# Altium schematic symbol library carrot_lib.SchLib: 285 symbols (part 4 of 4)
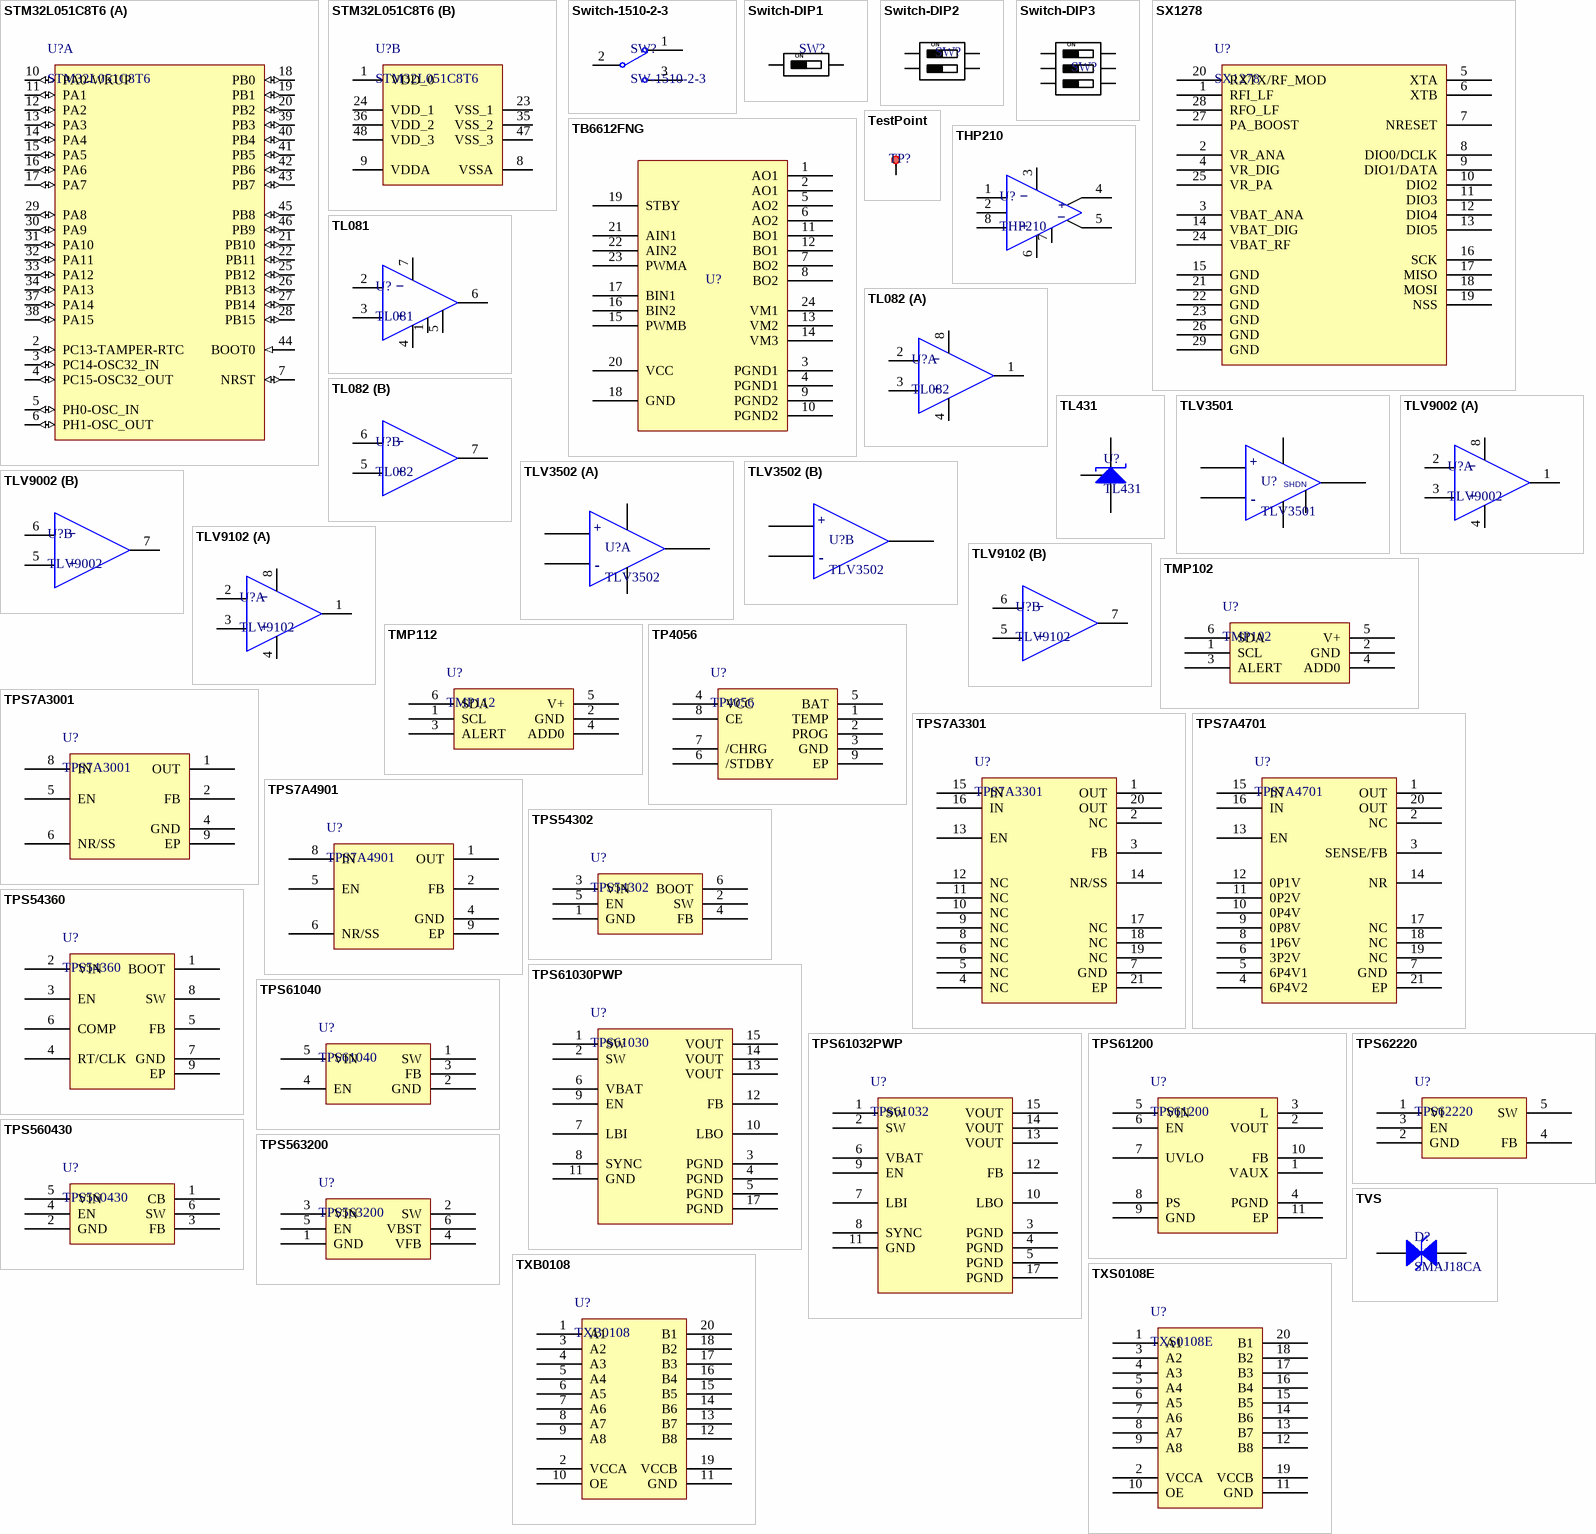
[diagram p17: symbols STM32L051C8T6 to TXS0108E]

## TLV9102
designator U?
TLV910x 16-V, 1-MHz, Rail-to-Rail Input/Output, Low Power Op Amp
footprint TLV9102-SOIC-8 (SOIC, 8-Leads, Body 4.90x3.90mm, Pitch 1.27mm, IPC Medium Density)
part A pins: 1 OUT A, 2 -IN A, 3 +IN A, 4 -Vs, 8 +Vs
part B pins: 5 +IN B, 6 -IN B, 7 OUT B
part A text: –; +
part B text: –; +

## TMP102
designator U?
2C digital temperature sensor, I2C/SMBus in 2.56mm2 package
footprint TMP102-SOT563 (SOTFL, 6-Leads, Body 1.60x1.60mm, Pitch 0.50mm, IPC Medium Density)
pins: 1 SCL "Serial clock.", 2 GND "Ground", 3 ALERT "Overtemperature alert.", 4 ADD0 "Address Select.", 5 V+ "Supply voltage, 1.4 V to 3.6 V", 6 SDA "Serial data."

## TMP112
designator U?
±0.5°C 1.4V to 3.6V digital temperature sensor with I2C/SMBus in 2.56mm2 package
footprint TMP112-SOT563 (SOTFL, 6-Leads, Body 1.60x1.60mm, Pitch 0.50mm, IPC Medium Density)
pins: 1 SCL "Serial clock.", 2 GND "Ground", 3 ALERT "Overtemperature alert.", 4 ADD0 "Address Select.", 5 V+ "Supply voltage, 1.4 V to 3.6 V", 6 SDA "Serial data."

## TP4056
designator U?
1A 线性锂离子电池充电器
footprint TP4056-SOIC8 (SOIC, 8-Leads, Body 4.90x3.90mm, Pitch 1.27mm, Thermal Pad 3.41x2.52mm, IPC Medium Density)
pins: 1 TEMP, 2 PROG, 3 GND, 4 VCC, 5 BAT, 6 /STDBY, 7 /CHRG, 8 CE, 9 EP

## TPS7A3001
designator U?
TPS7A30 –35-V, –200-mA, Ultralow-Noise, Negative Linear Regulator
footprint TPS7A3001-HVSSOP8 (TSOP, 8-Leads, Body 3.00x3.00mm, Pitch 0.65mm, Thermal Pad 1.89x1.57mm, IPC Medium Density)
pins: 1 OUT "Regulator output.", 2 FB "This pin is the input to the error amplifier.", 4 GND "Ground", 5 EN "This pin turns the regulator on or off.", 6 NR/SS "Noise-reduction pin.", 8 IN "Input supply", 9 EP "PowerPAD"

## TPS7A3301
designator U?
TPS7A33 –36-V, 1-A, Ultralow-Noise Negative Voltage Regulator
footprint TPS7A3301-QFN20 (PQFN, 20-Leads, Body 5.00x5.00mm, Pitch 0.65mm, Thermal Pad 3.15x3.15mm, IPC Medium Density)
footprint TPS7A3301-QFN20+ (PQFN, 20-Leads, Body 5.00x5.00mm, Pitch 0.65mm, Thermal Pad 3.15x3.15mm, IPC Medium Density)
pins: 1 OUT "Regulator output.", 2 NC "This pin can be left open or tied to any voltage between GND and IN.", 3 FB "This pin is the input to the control-loop error amplifier.", 4 NC "This pin can be left open or tied to any voltage between GND and IN.", 5 NC "This pin can be left open or tied to any voltage between GND and IN.", 6 NC "This pin can be left open or tied to any voltage between GND and IN.", 7 GND "Ground", 8 NC "This pin can be left open or tied to any voltage between GND and IN.", 9 NC "This pin can be left open or tied to any voltage between GND and IN.", 10 NC "This pin can be left open or tied to any voltage between GND and IN.", 11 NC "This pin can be left open or tied to any voltage between GND and IN.", 12 NC "This pin can be left open or tied to any voltage between GND and IN.", 13 EN "Enable pin.", 14 NR/SS "Noise reduction pin.", 15 IN "Input supply", 16 IN "Input supply", 17 NC "This pin can be left open or tied to any voltage between GND and IN.", 18 NC "This pin can be left open or tied to any voltage between GND and IN.", 19 NC "This pin can be left open or tied to any voltage between GND and IN.", 20 OUT "Regulator output.", 21 EP "Connect the thermal pad to a large-area ground plane."

## TPS7A4701
designator U?
TPS7A470x 36-V, 1-A, 4-µVRMS, RF LDO Voltage Regulator
footprint TPS7A4701-QFN20 (PQFN, 20-Leads, Body 5.00x5.00mm, Pitch 0.65mm, Thermal Pad 3.15x3.15mm, IPC Medium Density)
footprint TPS7A4701-QFN20+ (PQFN, 20-Leads, Body 5.00x5.00mm, Pitch 0.65mm, Thermal Pad 3.15x3.15mm, IPC Medium Density)
pins: 1 OUT "Regulator output.", 2 NC "This pin can be left open or tied to any voltage between GND and IN.", 3 SENSE/FB "Control-loop error amplifier input", 4 6P4V2 "When connected to GND, this pin adds 6.4 V to the nominal output voltage of the regulator.", 5 6P4V1 "When connected to GND, this pin adds 6.4 V to the nominal output voltage of the regulator", 6 3P2V "When connected to GND, this pin adds 3.2 V to the nominal output voltage of the regulator.", 7 GND "Ground", 8 1P6V "When connected to GND, this pin adds 1.6 V to the nominal output voltage of the regulator.", 9 0P8V "When connected to GND, this pin adds 0.8 V to the nominal output voltage of the regulator.", 10 0P4V "When connected to GND, this pin adds 0.4 V to the nominal output voltage of the regulator.", 11 0P2V "When connected to GND, this pin adds 0.2 V to the nominal output voltage of the regulator.", 12 0P1V "When connected to GND, this pin adds 0.1 V to the nominal output voltage of the regulator.", 13 EN "Enable pin.", 14 NR "Noise reduction pin.", 15 IN "Input supply", 16 IN "Input supply", 17 NC "This pin can be left open or tied to any voltage between GND and IN.", 18 NC "This pin can be left open or tied to any voltage between GND and IN.", 19 NC "This pin can be left open or tied to any voltage between GND and IN.", 20 OUT "Regulator output.", 21 EP "Connect the thermal pad to a large-area ground plane."

## TPS7A4901
designator U?
TPS7A49 36-V, 150-mA, Ultralow-Noise, Positive Linear Regulator
footprint TPS7A4901-HVSSOP8 (TSOP, 8-Leads, Body 3.00x3.00mm, Pitch 0.65mm, Thermal Pad 1.89x1.57mm, IPC Medium Density)
pins: 1 OUT "Regulator output.", 2 FB "This pin is the input to the error amplifier.", 4 GND "Ground", 5 EN "This pin turns the regulator on or off.", 6 NR/SS "Noise-reduction pin.", 8 IN "Input supply", 9 EP "PowerPAD"

## TPS54302
designator U?
TPS54302 4.5-V to 28-V Input, 3-A Output, EMI-Friendly Synchronous Step-Down Converter
footprint TPS54302-SOT23-6 (SOT23, 6-Leads, Body 2.90x2.80mm, Pitch 0.95mm, IPC Medium Density)
pins: 1 GND "Ground pin Source terminal of low-side power NFET as well as the ground terminal for controller circuit.", 2 SW "Switch node connection between high-side NFET and low-side NFET.", 3 VIN "Input voltage supply pin. The drain terminal of high-side power NFET.", 4 FB "Converter feedback input. Connect to output voltage with feedback resistor divider.", 5 EN "Enable input control. Active high and must be pulled up to enable the device.", 6 BOOT "Supply input for the high-side NFET gate drive circuit. Connect a 0.1μF capacitor between VBST and SW pins."

## TPS54360
designator U?
TPS54360 60-V Input, 3.5-A, Step-Down DC/DC Converter With Eco-Mode™
footprint TPS54360DDA-SOIC8 (SOIC, 8-Leads, Body 4.90x3.90mm, Pitch 1.27mm, Thermal Pad 3.10x2.40mm, IPC Medium Density)
pins: 1 BOOT "A bootstrap capacitor is required between BOOT and SW.", 2 VIN "Input supply voltage with 4.5 V to 60 V operating range.", 3 EN "Enable terminal, with internal pull-up current source.", 4 RT/CLK "Resistor Timing and External Clock.", 5 FB "Inverting input of the transconductance (gm) error amplifier.", 6 COMP "Error amplifier output and input to the output switch current (PWM) comparator.", 7 GND "Ground.", 8 SW "The source of the internal high-side power MOSFET and switching node of the converter.", 9 EP "GND terminal must be electrically connected to the exposed pad on the printed circuit board for proper operation."

## TPS61030PWP
designator U?, comment TPS61030
TPS6103x 96% Efficient Synchronous Boost Converter With 4A Switch
footprint TPS61030-TSSOP16 (TSOP, 16-Leads, Body 5.00x4.40mm, Pitch 0.65mm, Thermal Pad 2.31x2.46mm, IPC Medium Density)
pins: 1 SW "Boost and rectifying switch input", 2 SW "Boost and rectifying switch input", 3 PGND "Power ground", 4 PGND "Power ground", 5 PGND "Power ground", 6 VBAT "Supply voltage", 7 LBI "Low battery comparator input (comparator enabled with EN)", 8 SYNC "Enable/disable power save mode (1/VBAT disabled, 0/GND enabled, clock signal for synchronization)", 9 EN "Enable input. (1/VBAT enabled, 0/GND disabled)", 10 LBO "Low battery comparator output (open drain)", 11 GND "Control/logic ground", 12 FB "Voltage feedback of adjustable versions", 13 VOUT "DC/DC output", 14 VOUT "DC/DC output", 15 VOUT "DC/DC output", 17 PGND "Must be soldered to achieve appropriate power dissipation. Should be connected to PGND."

## TPS61032PWP
designator U?, comment TPS61032
TPS6103x 96% Efficient Synchronous Boost Converter With 4A Switch
footprint TPS61030-TSSOP16 (TSOP, 16-Leads, Body 5.00x4.40mm, Pitch 0.65mm, Thermal Pad 2.31x2.46mm, IPC Medium Density)
pins: 1 SW "Boost and rectifying switch input", 2 SW "Boost and rectifying switch input", 3 PGND "Power ground", 4 PGND "Power ground", 5 PGND "Power ground", 6 VBAT "Supply voltage", 7 LBI "Low battery comparator input (comparator enabled with EN)", 8 SYNC "Enable/disable power save mode (1/VBAT disabled, 0/GND enabled, clock signal for synchronization)", 9 EN "Enable input. (1/VBAT enabled, 0/GND disabled)", 10 LBO "Low battery comparator output (open drain)", 11 GND "Control/logic ground", 12 FB "Voltage feedback of adjustable versions", 13 VOUT "DC/DC output", 14 VOUT "DC/DC output", 15 VOUT "DC/DC output", 17 PGND "Must be soldered to achieve appropriate power dissipation. Should be connected to PGND."

## TPS61040
designator U?
TPS6104x Low-Power DC-DC Boost Converter in SOT-23 and WSON Packages
footprint TPS61040-SOT23-5 (SOT23, 5-Leads, Body 2.90x2.80mm, Pitch 0.95mm, IPC Medium Density)
pins: 1 SW "Connect the inductor and the Schottky diode to this pin.", 2 GND "Ground", 3 FB "This is the feedback pin of the device.", 4 EN "This is the enable pin of the device.", 5 VIN "Supply voltage pin."

## TPS61200
designator U?
TPS61200x Low Input Voltage Synchronous Boost Converter With 1.3-A Switches
footprint TPS61200-VSON10 (SON, 10-Leads, Body 3.00x3.00mm, Pitch 0.50mm, Thermal Pad 2.40x1.49mm, IPC Medium Density)
pins: 1 VAUX "Supply voltage for control stage", 2 VOUT "Boost converter output", 3 L "Connection for Inductor", 4 PGND "Power ground", 5 VIN "Boost converter input voltage", 6 EN "Enable input (High = enabled, Low = disabled). Do not leave floating.", 7 UVLO "Undervoltage lockout comparator input. Must be connected to VAUX if not used", 8 PS "Enable/disable Power Save mode (High = disabled, Low = enabled). Do not leave floating.", 9 GND "Control / logic ground", 10 FB "Voltage feedback of adjustable versions, must be connected to VOUT at fixed output voltage versions", 11 EP "Must be soldered to achieve appropriate power dissipation and mechanical reliability. Should be connected to PGND."

## TPS62220
designator U?
400-mA, 1.25-MHz, HIGH-EFFICIENCY, STEP-DOWN CONVERTER IN THIN-SOT23
footprint TPS62220-SOT23-5 (SOT23, 5-Leads, Body 2.90x2.80mm, Pitch 0.95mm, IPC Medium Density)
pins: 1 VI "Supply voltage pin", 2 GND "Ground", 3 EN "This is the enable pin of the device. Pulling this pin to ground forces the device into shutdown mode. Pulling this pin to Vin enables the device. This pin must be terminated.", 4 FB "This is the feedback pin of the device. Connect this pin directly to the output if the fixed output voltage version is used. For the adjustable version, an external resistor divider is connected to this pin. The internal voltage divider is disabled for the adjustable version.", 5 SW "Connect the inductor to this pin. This pin is the switch pin and is connected to the internal MOSFET switches."

## TPS560430
designator U?
TPS560430 SIMPLE SWITCHER® 4-V to 36-V, 600-mA Synchronous Step-Down Converter
footprint TPS560430-SOT23-6 (SOT23, 6-Leads, Body 2.90x2.80mm, Pitch 0.95mm, IPC Medium Density)
pins: 1 CB "Bootstrap capacitor connection for high-side FET driver. Connect a high quality 100-nF capacitor  from this pin to the SW pin.", 2 GND "Power ground terminals, connected to the source of low-side FET internally. Connect to system  ground, ground side of CIN and COUT. Path to CIN must be as short as possible.", 3 FB "Feedback input to the convertor. Connect a resistor divider to set the output voltage. Never short  this terminal to ground during operation.", 4 EN "Precision enable input to the convertor. Do not float. High = on, Low = off. Can be tied to VIN.  Precision enable input allows adjustable UVLO by external resistor divider.", 5 VIN "Supply input terminal to internal bias LDO and high-side FET. Connect to input supply and input  bypass capacitors CIN. Input bypass capacitors must be directly connected to this pin and GND.", 6 SW "Switching output of the convertor. Internally connected to source of the high-side FET and drain of  the low-side FET. Connect to power inductor."

## TPS563200
designator U?
4.5-V To 17-V Input, 3-A Synchronous Step-Down Voltage Regulator In 6 Pin SOT-23.
footprint TPS563200-SOT23-6 (SOT23, 6-Leads, Body 2.90x2.80mm, Pitch 0.95mm, IPC Medium Density)
pins: 1 GND "Ground pin Source terminal of low-side power NFET as well as the ground terminal for controller circuit.", 2 SW "Switch node connection between high-side NFET and low-side NFET.", 3 VIN "Input voltage supply pin. The drain terminal of high-side power NFET.", 4 VFB "Converter feedback input. Connect to output voltage with feedback resistor divider.", 5 EN "Enable input control. Active high and must be pulled up to enable the device.", 6 VBST "Supply input for the high-side NFET gate drive circuit. Connect a 0.1μF capacitor between VBST and SW pins."

## TVS
designator D?, comment SMAJ18CA
SURFACE MOUNT TRANSIENT VOLTAGE SUPPRESSORS
footprint DIODE-SMA/DO-214AC-NP (DO-214-AC/SMA; 2 C-Bend Leads; Body 5.0 x 2.7 mm, inc. leads (LxW))
footprint DIODE-SMB/DO-214AA-NP (DO-214-AA/SMB; 2 C-Bend Leads; Body 5.3 x 3.6 mm, inc. leads (LxW))
pins: 1, 2

## TXB0108
designator U?
TXB0108 8-Bit Bidirectional Voltage-Level Translator with Auto-Direction Sensing and ±15-kV ESD Protection
footprint TXB0108-TSSOP20 (TSOP, 20-Leads, Body 6.50x4.40mm, Pitch 0.65mm, IPC Medium Density)
pins: 1 A1 "Input/output. Referenced to VCCA", 2 VCCA, 3 A2 "Input/output. Referenced to VCCA", 4 A3 "Input/output. Referenced to VCCA", 5 A4 "Input/output. Referenced to VCCA", 6 A5 "Input/output. Referenced to VCCA", 7 A6 "Input/output. Referenced to VCCA", 8 A7 "Input/output. Referenced to VCCA", 9 A8 "Input/output. Referenced to VCCA", 10 OE, 11 GND, 12 B8 "Input/output. Referenced to VCCB", 13 B7 "Input/output. Referenced to VCCB", 14 B6 "Input/output. Referenced to VCCB", 15 B5 "Input/output. Referenced to VCCB", 16 B4 "Input/output. Referenced to VCCB", 17 B3 "Input/output. Referenced to VCCB", 18 B2 "Input/output. Referenced to VCCB", 19 VCCB, 20 B1 "Input/output. Referenced to VCCB"

## TXS0108E
designator U?
TXS0108E 8-Bit Bi-directional, Level-Shifting, Voltage Translator for Open-Drain and Push-Pull Applications
footprint TXS0108E-TSSOP20 (TSOP, 20-Leads, Body 6.50x4.40mm, Pitch 0.65mm, IPC Medium Density)
pins: 1 A1 "Input/output. Referenced to VCCA", 2 VCCA, 3 A2 "Input/output. Referenced to VCCA", 4 A3 "Input/output. Referenced to VCCA", 5 A4 "Input/output. Referenced to VCCA", 6 A5 "Input/output. Referenced to VCCA", 7 A6 "Input/output. Referenced to VCCA", 8 A7 "Input/output. Referenced to VCCA", 9 A8 "Input/output. Referenced to VCCA", 10 OE, 11 GND, 12 B8 "Input/output. Referenced to VCCB", 13 B7 "Input/output. Referenced to VCCB", 14 B6 "Input/output. Referenced to VCCB", 15 B5 "Input/output. Referenced to VCCB", 16 B4 "Input/output. Referenced to VCCB", 17 B3 "Input/output. Referenced to VCCB", 18 B2 "Input/output. Referenced to VCCB", 19 VCCB, 20 B1 "Input/output. Referenced to VCCB"

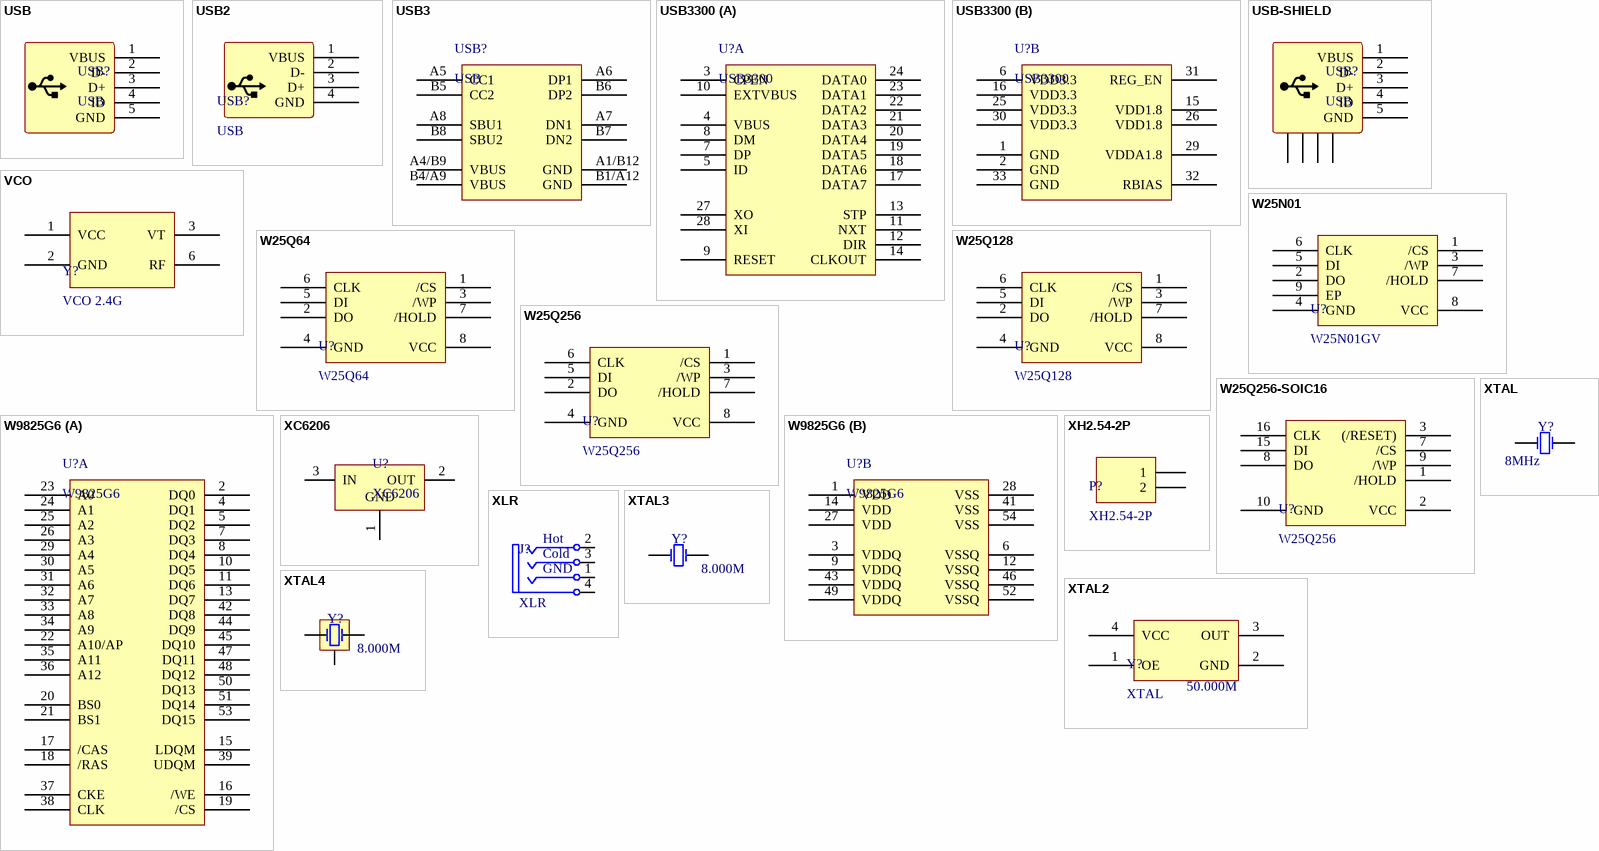
[diagram p14: symbols USB to XTAL4]

## USB
designator USB?
footprint USB-Micro-SMD (MicroUSB)
footprint USB-Mini-SMD
pins: 1 VBUS, 2 D-, 3 D+, 4 ID, 5 GND

## USB2
designator USB?, comment USB
footprint USB-TYPEB
footprint USB-TYPEA
pins: 1 VBUS, 2 D-, 3 D+, 4 GND

## USB3
designator USB?, comment USB
footprint USB-TYPEC-F-16P-THD (USB3.1 Type-C Receptacle 16P 4THD)
pins: A1/B12 GND, A4/B9 VBUS, A5 CC1, A6 DP1, A7 DN1, A8 SBU1, B1/A12 GND, B4/A9 VBUS, B5 CC2, B6 DP2, B7 DN2, B8 SBU2

## USB3300
designator U?
Hi-Speed USB Host, Device or OTG PHY with ULPI Low Pin Interface
footprint USB3300-QFN32 (QFN, 32-Leads, Body 5.00x5.00mm, Pitch 0.50mm, Thermal Pad 3.30x3.30mm, IPC Medium Density)
part A pins: 3 CPEN "External 5 volt supply enable", 4 VBUS "VBUS pin of the USB cable", 5 ID "ID pin of the USB cable", 7 DP "D+ pin of the USB cable", 8 DM "D- pin of the USB cable", 9 RESET "Optional active high transceiver reset", 10 EXTVBUS "External Vbus Detect", 11 NXT "The PHY asserts NXT to throttle the data", 12 DIR "Controls the direction of the data bus", 13 STP "The Link asserts STP for one clock cycle to stop the data stream currently on the bus", 14 CLKOUT "60MHz reference clock output", 17 DATA7 "8-bit bi-directional data bus", 18 DATA6 "8-bit bi-directional data bus", 19 DATA5 "8-bit bi-directional data bus", 20 DATA4 "8-bit bi-directional data bus", 21 DATA3 "8-bit bi-directional data bus", 22 DATA2 "8-bit bi-directional data bus", 23 DATA1 "8-bit bi-directional data bus", 24 DATA0 "8-bit bi-directional data bus", 27 XO "Crystal pin", 28 XI "Crystal pin"
part B pins: 1 GND "Ground", 2 GND "Ground", 6 VDD3.3 "3.3V Supply", 15 VDD1.8 "1.8V for digital circuitry on chip", 16 VDD3.3 "3.3V Supply", 25 VDD3.3 "3.3V Supply", 26 VDD1.8 "1.8V for digital circuitry on chip", 29 VDDA1.8 "1.8V for analog circuitry on chip", 30 VDD3.3 "Analog 3.3 volt supply", 31 REG_EN "On-Chip 1.8V regulator enable", 32 RBIAS "External 12KΩ +/- 1% bias resistor to ground.", 33 GND "Ground"

## USB-SHIELD
designator USB?, comment USB
footprint USB-Micro-SMD (MicroUSB)
footprint USB-Mini-SMD
pins: 1 VBUS, 2 D-, 3 D+, 4 ID, 5 GND, 6, 7, 8, 9

## VCO
designator Y?, comment VCO 2.4G
压控振荡器
footprint VCO-9X7X2 (9*7*2mm)
pins: 1 VCC, 2 GND, 3 VT, 6 RF

## W25N01
designator U?, comment W25N01GV
3V 1G-BIT SERIAL SLC NAND FLASH MEMORY WITH DUAL/QUAD SPI BUFFER READ & CONTINUOUS READ
footprint W25N01-WSON8 (PSON, 8-Leads, Body 6.00x8.00mm, Pitch 1.27mm, Thermal Pad 4.30x3.40mm, IPC Medium Density)
footprint W25N01-WSON8+ (PSON, 8-Leads, Body 6.00x8.00mm, Pitch 1.27mm, Thermal Pad 4.30x3.40mm, IPC Medium Density)
pins: 1 /CS, 2 DO, 3 /WP, 4 GND, 5 DI, 6 CLK, 7 /HOLD, 8 VCC, 9 EP

## W25Q64
designator U?
64M-BIT SERIAL FLASH MEMORY WITH DUAL, QUAD SPI
footprint W25Q64-SOIC8 (SOIC, 8-Leads, Body 5.28x5.28mm, Pitch 1.27mm, IPC Medium Density)
pins: 1 /CS, 2 DO, 3 /WP, 4 GND, 5 DI, 6 CLK, 7 /HOLD, 8 VCC

## W25Q128
designator U?
128M-BIT SERIAL FLASH MEMORY WITH DUAL, QUAD SPI
footprint W25Q128-SOIC8 (SOIC, 8-Leads, Body 5.28x5.28mm, Pitch 1.27mm, IPC Medium Density)
pins: 1 /CS, 2 DO, 3 /WP, 4 GND, 5 DI, 6 CLK, 7 /HOLD, 8 VCC

## W25Q256
designator U?
256M-BIT SERIAL FLASH MEMORY WITH DUAL, QUAD SPI
footprint W25Q256-WSON8-8X6 (SON, 8-Leads, Body 6.00x8.00mm, Pitch 1.27mm, Thermal Pad 4.30x3.40mm, IPC Medium Density)
pins: 1 /CS, 2 DO, 3 /WP, 4 GND, 5 DI, 6 CLK, 7 /HOLD, 8 VCC

## W25Q256-SOIC16
designator U?, comment W25Q256
256M-BIT SERIAL FLASH MEMORY WITH DUAL, QUAD SPI
footprint W25Q256-SOIC16 (SOIC, 16-Leads, Body 10.29x7.49mm, Pitch 1.27mm, IPC Medium Density)
pins: 1 /HOLD "Hold Input (Data Input Output 3)", 2 VCC "Power Supply", 3 (/RESET) "Reset Input(Optional)", 7 /CS "Chip Select Input", 8 DO "Data Output (Data Input Output 1)", 9 /WP "Write Protect Input (Data Input Output 2)", 10 GND "Ground", 15 DI "Data Input (Data Input Output 0)", 16 CLK "Serial Clock Input"

## W9825G6
designator U?
4 M * 4 BANKS * 16 BITS SDRAM
footprint W9825G6-TSOP54 (TSOP, 54-Leads, Body 22.22x10.16mm, Pitch 0.80mm, IPC Medium Density)
part A pins: 2 DQ0 "Data Input/Output", 4 DQ1 "Data Input/Output", 5 DQ2 "Data Input/Output", 7 DQ3 "Data Input/Output", 8 DQ4 "Data Input/Output", 10 DQ5 "Data Input/Output", 11 DQ6 "Data Input/Output", 13 DQ7 "Data Input/Output", 15 LDQM "Input/Output Mask", 16 /WE "Write Enable", 17 /CAS "Column Address Strobe", 18 /RAS "Row Address Strobe", 19 /CS "Chip Select", 20 BS0 "Bank Select", 21 BS1 "Bank Select", 22 A10/AP "Address", 23 A0 "Address", 24 A1 "Address", 25 A2 "Address", 26 A3 "Address", 29 A4 "Address", 30 A5 "Address", 31 A6 "Address", 32 A7 "Address", 33 A8 "Address", 34 A9 "Address", 35 A11 "Address", 36 A12 "Address", 37 CKE "Clock Enable", 38 CLK "Clock Inputs", 39 UDQM "Input/Output Mask", 42 DQ8 "Data Input/Output", 44 DQ9 "Data Input/Output", 45 DQ10 "Data Input/Output", 47 DQ11 "Data Input/Output", 48 DQ12 "Data Input/Output", 50 DQ13 "Data Input/Output", 51 DQ14 "Data Input/Output", 53 DQ15 "Data Input/Output"
part B pins: 1 VDD "Power", 3 VDDQ "Power for I/O Buffer", 6 VSSQ "Ground for I/O Buffer", 9 VDDQ "Power for I/O Buffer", 12 VSSQ "Ground for I/O Buffer", 14 VDD "Power", 27 VDD "Power", 28 VSS "Ground", 41 VSS "Ground", 43 VDDQ "Power for I/O Buffer", 46 VSSQ "Ground for I/O Buffer", 49 VDDQ "Power for I/O Buffer", 52 VSSQ "Ground for I/O Buffer", 54 VSS "Ground"

## XC6206
designator U?
Low ESR Cap. Compatible Positive Voltage Regulators
footprint XC6206-SOT23 (SOT23, 3-Leads, Body 2.90x2.80mm, Pitch 0.95mm, IPC Medium Density)
pins: 1 GND, 2 OUT, 3 IN

## XH2.54-2P
designator P?
footprint XH2.54-2P
pins: 1, 2

## XLR
designator J?
XLR Phono Jack, Balanced Analog Audio Connector.; PCB_Layout: Complies with manufacturer's recommendation.; DrillAndSlotSize: Corresponds to nominal value.; Published: 15-Jul-2004; LatestRevisionDate: 15-Jul-2004; LatestRevisionNote: Component Replaced.; DatasheetDocument: 7-Jul-2000; PackageDocument: 7-Jul-2000; PackageReference: 161; Publisher: Altium Limited; ComponentLink1Description: Manufacturer Link; ComponentLink1URL: http://www.mouser.com/kobiconn/
footprint XLR-FL (XLR Phono Jack, Balanced Analog Audio Female Connector.)
footprint XLR-ML (XLR Phono Jack, Balanced Analog Audio Male Connector.)
pins: 1 G "Ground", 2 H "Hot", 3 C "Cold", 4 S "Shield"
text: Hot; Cold; GND

## XTAL
designator Y?  value 8MHz  (hidden comment: XTAL)
Crystal Oscillator
footprint XTAL-3215 (3215贴片晶振)
footprint XTAL-HC-49S (XTAL,2pin)
footprint XTAL-HC-49SMD (XTAL,2pin,smd)
footprint XTAL-HC-49U (XTAL,2pin)
footprint XTAL-HC-49UL (XTAL,2pin)
pins: 1 OSC1, 2 OSC2

## XTAL2
designator Y?, comment XTAL  value 50.000M
有源晶振
footprint XTAL-3225 (4脚3225贴片晶振)
footprint XTAL-5032 (4脚5032贴片晶振)
footprint XTAL-7050 (4脚7050贴片晶振)
pins: 1 OE, 2 GND, 3 OUT, 4 VCC

## XTAL3
designator Y?, comment value 8.000M  (hidden comment: XTAL)
Crystal Oscillator
footprint XTAL-3225 (4脚3225贴片晶振)
footprint XTAL-5032 (4脚5032贴片晶振)
footprint XTAL-7050 (4脚7050贴片晶振)
pins: 1 OSC1, 3 OSC2

## XTAL4
designator Y?, comment value 8.000M  (hidden comment: XTAL)
Crystal Oscillator
footprint XTAL-3225 (4脚3225贴片晶振); pin to pad 2>2+4
footprint XTAL-5032 (4脚5032贴片晶振); pin to pad 2>2+4
footprint XTAL-7050 (4脚7050贴片晶振); pin to pad 2>2+4
pins: 1 OSC1, 2 GND, 3 OSC2